# EAGLE library part MSP430F2012IN (library REEF_LIB)
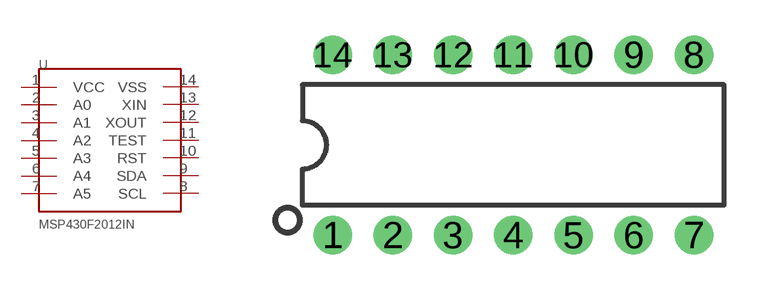
[diagram p8: symbol with the pads of DIP14; footprint DIP14]

Designator prefix -

## MSP430F2012IN  [DIP14]
1  VCC
2  A0
3  A1
4  A2
5  A3
6  A4
7  A5
8  SCL
9  SDA
10  RST
11  TEST
12  XOUT
13  XIN
14  VSS

## Footprint DIP14 (pad centres in mm)
drill 0.813 pad 1.626: 1 -7.62,-3.81; 2 -5.08,-3.81; 3 -2.54,-3.81; 4 0,-3.81; 5 2.54,-3.81; 6 5.08,-3.81; 7 7.62,-3.81; 8 7.62,3.81; 9 5.08,3.81; 10 2.54,3.81; 11 0,3.81; 12 -2.54,3.81; 13 -5.08,3.81; 14 -7.62,3.81